# EAGLE library part RESISTOR-ARRAY (library Cool_Electricity)
Array Chip Resistor Source: RS Component / Phycomp
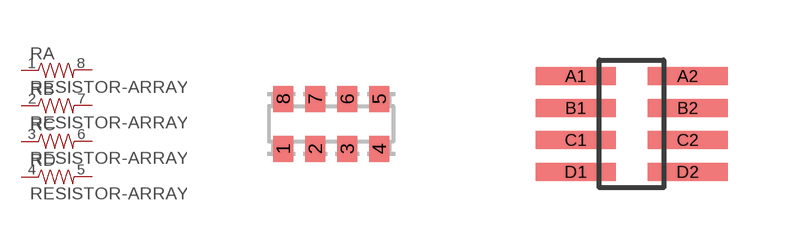
[diagram p10: symbol with the pads of 0603-ARV; footprints 0603-ARV, 1206_NETWORK]

Designator prefix R; gates A=RESISTOR-1 B=RESISTOR-1 C=RESISTOR-1 D=RESISTOR-1

## RESISTOR-ARRAY0603-ARV  [0603-ARV]
1  A:1  pas
2  B:1  pas
3  C:1  pas
4  D:1  pas
5  D:2  pas
6  C:2  pas
7  B:2  pas
8  A:2  pas

## RESISTOR-ARRAY  [1206_NETWORK]
A1  A:1  pas
A2  A:2  pas
B1  B:1  pas
B2  B:2  pas
C1  C:1  pas
C2  C:2  pas
D1  D:1  pas
D2  D:2  pas

## Footprint 0603-ARV (pad centres in mm)
Chip Resistor Array size 4 × 0603 convex termination - Phycomp Components Source: RS Components
smd 0.5 x 0.65: 1 -1.2,-0.625; 2 -0.4,-0.625; 3 0.4,-0.625; 4 1.2,-0.625; 5 1.2,0.625; 6 0.4,0.625; 7 -0.4,0.625; 8 -1.2,0.625

## Footprint 1206_NETWORK (pad centres in mm)
smd 2 x 0.45: A1 -1.4,1.2; A2 1.4,1.2; B1 -1.4,0.4; B2 1.4,0.4; C1 -1.4,-0.4; C2 1.4,-0.4; D1 -1.4,-1.2; D2 1.4,-1.2